# Altium footprint library SO-Packages.PcbLib: 3 footprints
Each footprint in its own frame and in the unit in brackets; x right, y up, seen from the top. Pads: shape width x height; smd on the part's side, far side on the other; paste and mask are expansions set on the pad; w line width, h text height; cw(c..) or ccw(c..) is an arc to the next point about the centre after c.
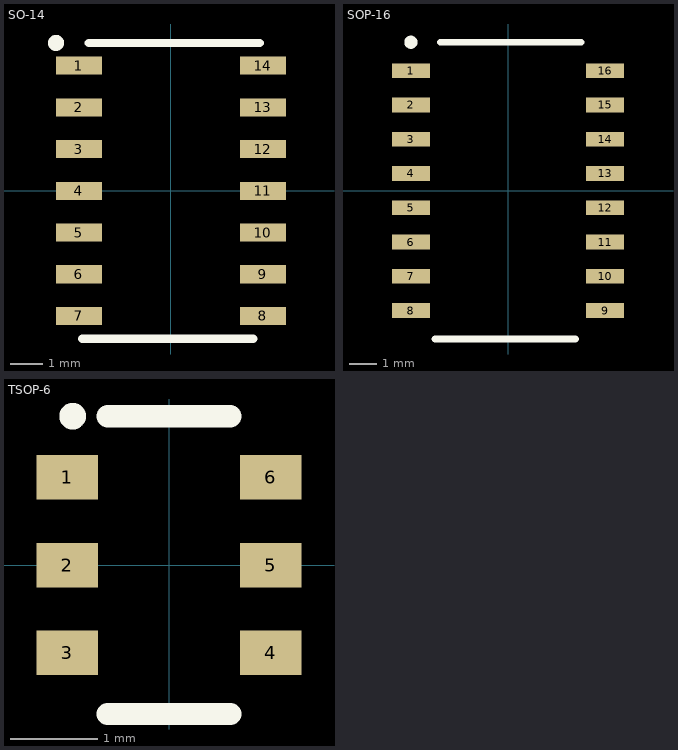
[diagram p0: the footprints below, top view; thin cyan lines are the x and y axes]

## SO-14 [mm]
pads (14):
  rect 1.4x0.55 smd: 1(-2.8,3.81) 2(-2.8,2.54) 3(-2.8,1.27) 4(-2.8,0) 5(-2.8,-1.27) 6(-2.8,-2.54) 7(-2.8,-3.81) 8(2.8,-3.81) 9(2.8,-2.54) 10(2.8,-1.27) 11(2.8,0) 12(2.8,1.27) 13(2.8,2.54) 14(2.8,3.81)
Top Overlay:
  circle w0.25: c-3.5,4.5 r0.12
  lines w0.254: -2.7,-4.5 -1.4,-4.5 1.2,-4.5 2.5,-4.5 ; -2.5,4.5 -1.2,4.5 1.4,4.5 2.7,4.5
3D body "SOIC-14.m3d.stp": height 1.75, standoff 0, extent -3,-4.375 3,4.375

## SOP-16 [mm]
pads (16):
  rect 1.4x0.55 smd: 1(-3.6,4.445) 2(-3.6,3.175) 3(-3.6,1.905) 4(-3.6,0.635) 5(-3.6,-0.635) 6(-3.6,-1.905) 7(-3.6,-3.175) 8(-3.6,-4.445) 9(3.6,-4.445) 10(3.6,-3.175) 11(3.6,-1.905) 12(3.6,-0.635) 13(3.6,0.635) 14(3.6,1.905) 15(3.6,3.175) 16(3.6,4.445)
Top Overlay:
  circle w0.25: c-3.6,5.5 r0.12
  lines w0.254: -2.7,-5.5 2.5,-5.5 ; -2.5,5.5 2.7,5.5
3D body "SOP16.stp": height 1.6, standoff 0, extent -3.9,-5.4 3.9,5.4

## TSOP-6 [mil]
pads (6):
  rect 27.52x20 smd: 1(-45.77,39.41) 2(-45.77,0) 3(-45.77,-39.41) 4(45.77,-39.41) 5(45.77,0) 6(45.77,39.41)
Top Overlay:
  circle w10: c-43.31,66.93 r0.98
  lines w10: -27.56,-66.93 27.56,-66.93 ; -27.56,66.93 27.56,66.93
3D body "Деталь.stp": height 41.73, standoff 0, extent -56.1,-60.04 56.1,60.04